# Altium schematic symbol library ism330dlc.SchLib: 1 symbol
Pins are listed as number, name and electrical type; pins without a type are passive.

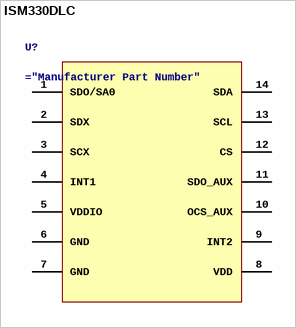
[diagram p0: symbol ISM330DLC]

## ISM330DLC
designator U?
ST ACCELEROMETER/GYROSCOPE 3D 14LGA LOW POWER
pins: 1 SDO/SA0, 2 SDX, 3 SCX, 4 INT1, 5 VDDIO, 6 GND, 7 GND, 8 VDD, 9 INT2, 10 OCS_AUX, 11 SDO_AUX, 12 CS, 13 SCL, 14 SDA